# EAGLE library part AND-DUAL (library gen3)
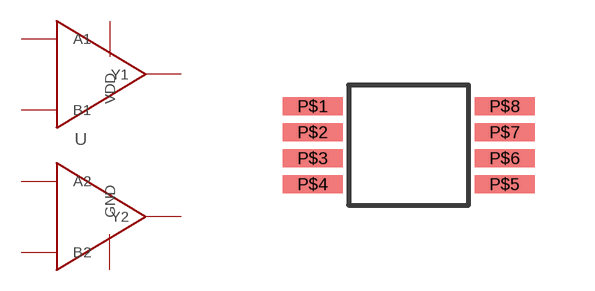
[diagram p7: symbol with the pads of TSSOP8; footprint TSSOP8]

Designator prefix -

## AND-DUAL  [TSSOP8]
P$1  A1
P$2  B1
P$3  Y2
P$4  GND
P$5  A2
P$6  B2
P$7  Y1
P$8  VDD

## Footprint TSSOP8 (pad centres in mm)
smd 1.5 x 0.45: P$1 -2.4,0.975; P$2 -2.4,0.325; P$3 -2.4,-0.325; P$4 -2.4,-0.975; P$5 2.4,-0.975; P$6 2.4,-0.325; P$7 2.4,0.325; P$8 2.4,0.975